# EAGLE library part LSF0204PWR (library LSF0204PWR)
None
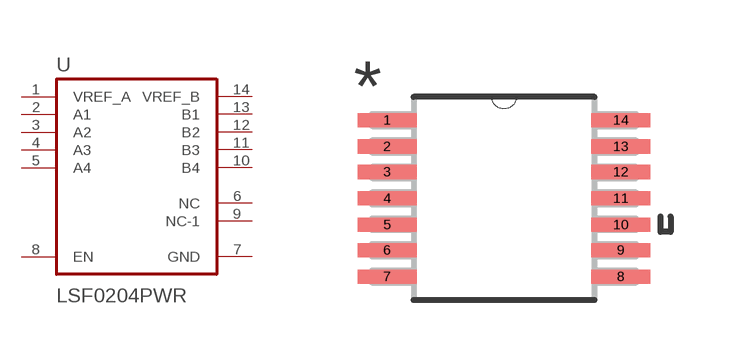
[diagram p0: symbol with the pads of SOP65P640X120-14N; footprint SOP65P640X120-14N]

Designator prefix U

## LSF0204PWR (AVAILABILITY: Good; DESCRIPTION: 4-Bit Bidirectional Multi-Voltage Level Translator for Open-Drain &amp; Push- Pull 14-TSSOP -40 to 125; MF: Texas Instruments; MP: LSF0204PWR; PACKAGE: TSSOP-14 Texas Instruments; PRICE: 0.62 USD)  [SOP65P640X120-14N]
1  VREF_A  pwr
2  A1
3  A2
4  A3
5  A4
6  NC
7  GND  pwr
8  EN  in
9  NC-1
10  B4
11  B3
12  B2
13  B1
14  VREF_B  in

## Footprint SOP65P640X120-14N (pad centres in mm)
smd 1.473 x 0.356: 1 -2.921,1.956; 2 -2.921,1.295; 3 -2.921,0.66; 4 -2.921,0; 5 -2.921,-0.66; 6 -2.921,-1.295; 7 -2.921,-1.956; 8 2.921,-1.956; 9 2.921,-1.295; 10 2.921,-0.66; 11 2.921,0; 12 2.921,0.66; 13 2.921,1.295; 14 2.921,1.956